# EAGLE library part AT93C66 (library mylib)
4kB Serial EEPROM
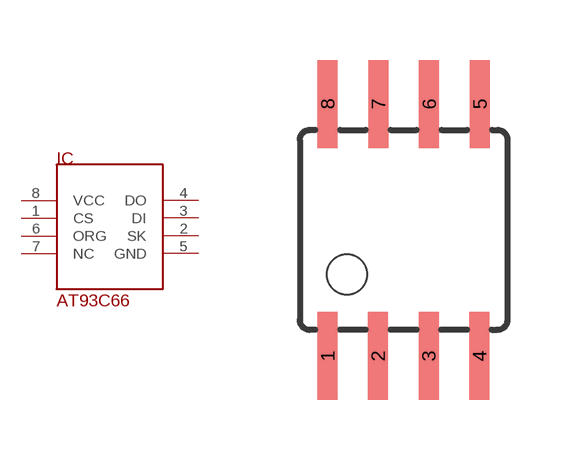
[diagram p3: symbol with the pads of SOIC8; footprint SOIC8]

Designator prefix IC

## AT93C66  [SOIC8]
1  CS
2  SK
3  DI
4  DO
5  GND  pwr
6  ORG
7  NC
8  VCC  pwr

## Footprint SOIC8 (pad centres in mm)
smd 0.5 x 2.2: 1 0.635,-0.614; 2 1.895,-0.614; 3 3.165,-0.614; 4 4.435,-0.614; 5 4.445,5.694; 6 3.175,5.694; 7 1.905,5.694; 8 0.635,5.694